# Altium schematic symbol library OPTO-A1K2C4E3.Schlib: 1 symbol
Pins are listed as number, name and electrical type; pins without a type are passive.

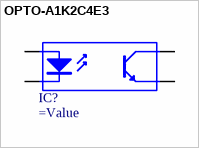
[diagram p0: symbol OPTO-A1K2C4E3]

## OPTO-A1K2C4E3
designator IC?
Optocoupler transistor output 4 pins
pins: 1 A "Anode", 2 K "Cathode", 3 E "Emitter", 4 C "Collector"